# Altium integrated library SLW-120-01-G-S.IntLib: 2 symbols
Pins are listed as number, name and electrical type; pins without a type are passive.

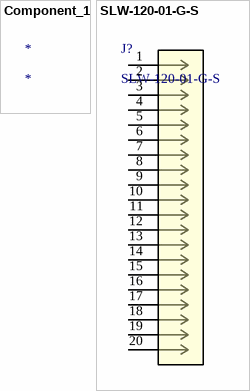
[diagram p0: symbols Component_1 to SLW-120-01-G-S]

## Component_1
designator *

## SLW-120-01-G-S
designator J?
No Description Available; Mfr_Name: Samtec Inc; Copyright: Copyright (C) 2022 Ultra Librarian. All rights reserved.; Manufacturer_Part_Number: SLW-120-01-G-S; RefDes: RefDes; Type: DEV
footprint CON20_1X20_TU_SLW_SAI
pins: 1, 2, 3, 4, 5, 6, 7, 8, 9, 10, 11, 12, 13, 14, 15, 16, 17, 18, 19, 20